# Altium schematic symbol library ESD5V3U2U03FH6327XTSA1.SchLib: 1 symbol
Pins are listed as number, name and electrical type; pins without a type are passive.

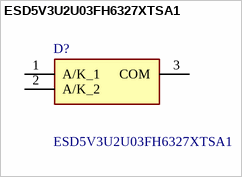
[diagram p0: symbol ESD5V3U2U03FH6327XTSA1]

## ESD5V3U2U03FH6327XTSA1
designator D?
Uni-directional Ultra Low ESD / Transient Protection Diode.; Manufacturer_Name: Infineon; Geometry.Height: 0.59mm; Manufacturer_Part_Number: ESD5V3U2U03FH6327XTSA1; Mouser Part Number: 726-5V3U2U03FH6327XT; Mouser Price/Stock: https://www.mouser.co.uk/ProductDetail/Infineon-Technologies/ESD5V3U2U03FH6327XTSA1?qs=OwbwYO03UsIO6kWWsxe48A%3D%3D; Arrow Part Number: ESD5V3U2U03FH6327XTSA1; Arrow Price/Stock: https://www.arrow.com/en/products/esd5v3u2u03fh6327xtsa1/infineon-technologies-ag?utm_currency=USD&region=nac; Datasheet Link: https://componentsearchengine.com/Datasheets/1/ESD5V3U2U03FH6327XTSA1.pdf
footprint SOTFL40P120X59-3N
pins: 1 A/K_1, 2 A/K_2, 3 COM